# Altium footprint library SamacSys.PcbLib: 70 footprints (part 2 of 5)
Each footprint in its own frame and in the unit in brackets; x right, y up, seen from the top. Pads: shape width x height; smd on the part's side, far side on the other; paste and mask are expansions set on the pad; w line width, h text height; cw(c..) or ccw(c..) is an arc to the next point about the centre after c.
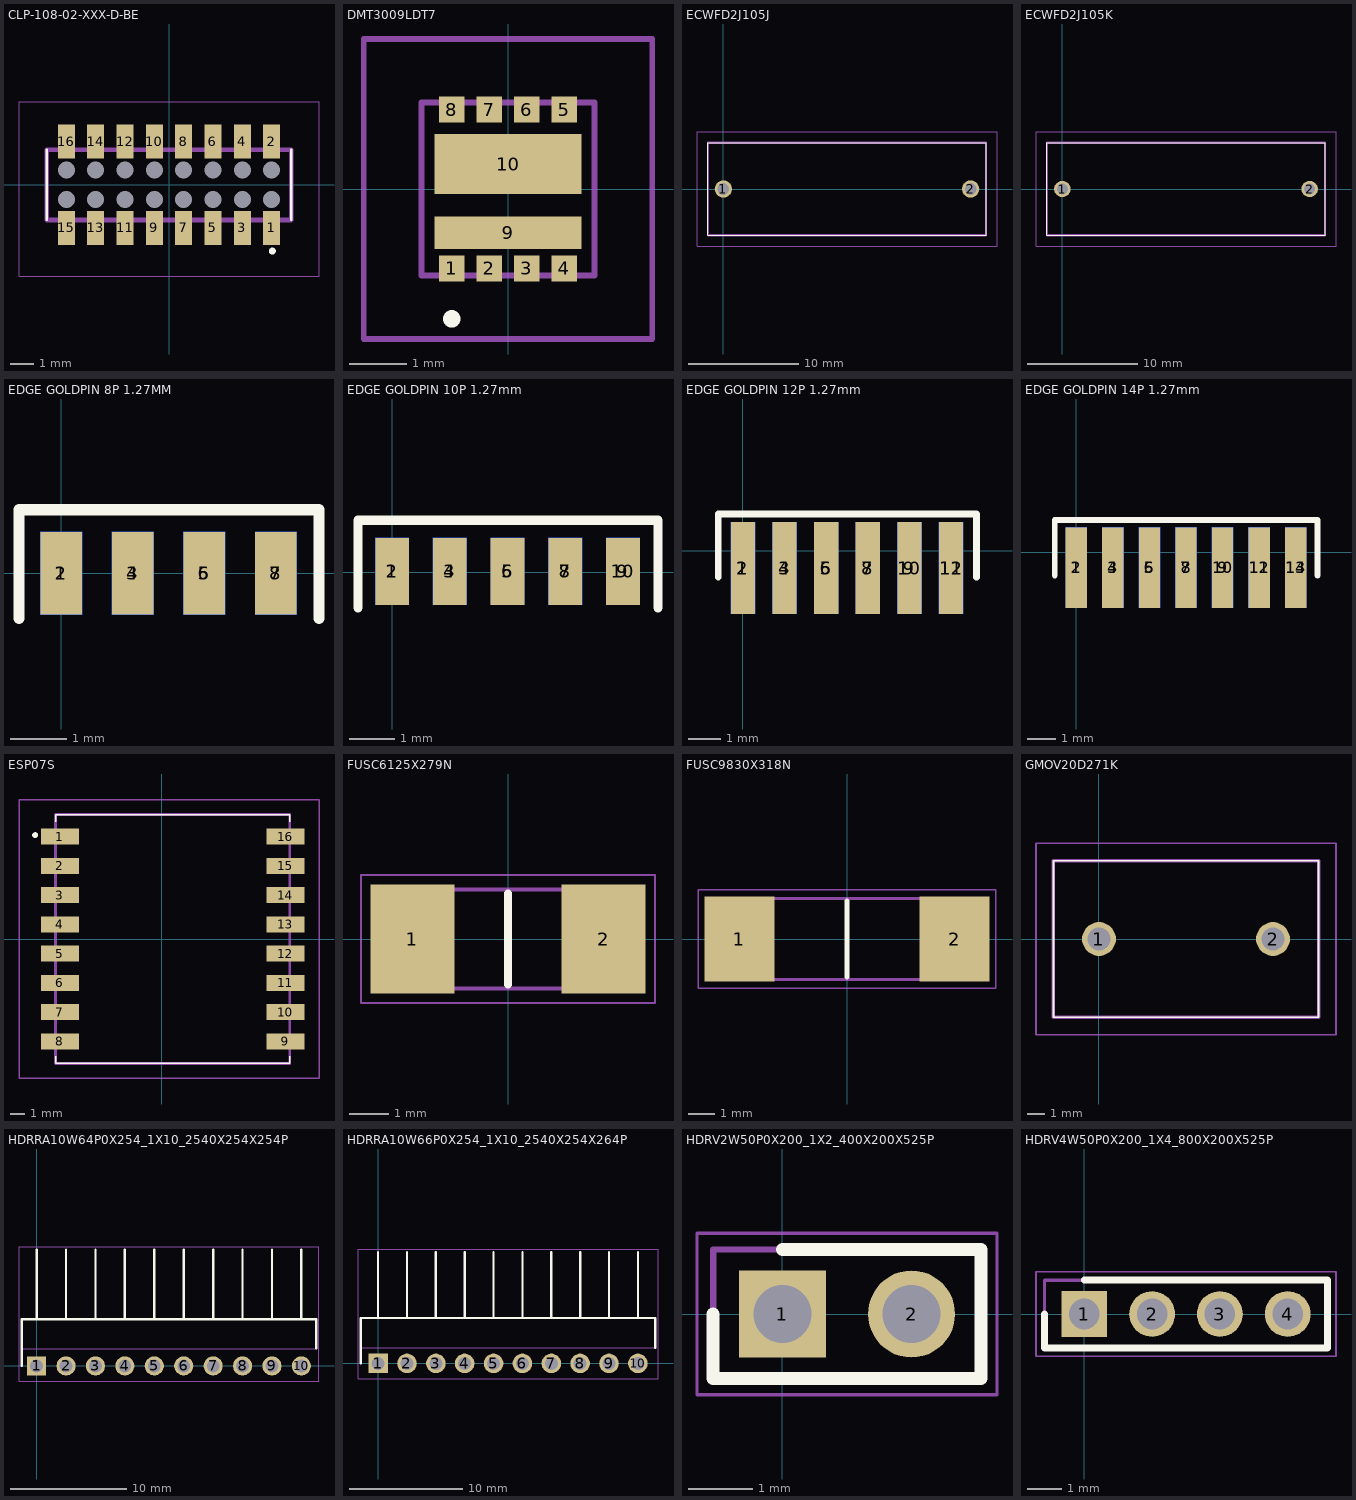
[diagram p1: the footprints below, top view; thin cyan lines are the x and y axes]

## CLP-108-02-XXX-D-BE [mm]
pads (32):
  rect 0.74x1.47 smd: 1(4.445,-1.87) 2(4.445,1.87) 3(3.175,-1.87) 4(3.175,1.87) 5(1.905,-1.87) 6(1.905,1.87) 7(0.635,-1.87) 8(0.635,1.87) 9(-0.635,-1.87) 10(-0.635,1.87) 11(-1.905,-1.87) 12(-1.905,1.87) 13(-3.175,-1.87) 14(-3.175,1.87) 15(-4.445,-1.87) 16(-4.445,1.87)
  round 0.37 hole 0.74 unplated: 17(4.445,-0.635) 18(4.445,0.635) 19(3.175,-0.635) 20(3.175,0.635) 21(1.905,-0.635) 22(1.905,0.635) 23(0.635,-0.635) 24(0.635,0.635) 25(-0.635,-0.635) 26(-0.635,0.635) 27(-1.905,-0.635) 28(-1.905,0.635) 29(-3.175,-0.635) 30(-3.175,0.635) 31(-4.445,-0.635) 32(-4.445,0.635)
Top Overlay:
  circle w0.2: c4.475,-2.87 r0.05
  lines w0.1: -5.295,-1.525 -5.295,1.525 ; 5.295,-1.525 5.295,1.525
Mechanical 13:
  lines w0.2: -5.295,-1.525 -5.295,1.525 5.295,1.525 5.295,-1.525 -5.295,-1.525
Mechanical 15:
  lines w0.05: -6.495,-3.97 -6.495,3.605 6.495,3.605 6.495,-3.97 -6.495,-3.97
3D body "CLP-108-02-F-D-BE.stp": height 2.13, standoff -0.15, extent -5.297,-2.159 5.295,2.159

## DMT3009LDT7 [mm]
pads (10):
  rect 0.45x0.45 smd: 1(-0.975,-1.375) 2(-0.325,-1.375) 3(0.325,-1.375) 4(0.975,-1.375) 5(0.975,1.375) 6(0.325,1.375) 7(-0.325,1.375) 8(-0.975,1.375)
  rect 2.55x0.566 smd: 9(0,-0.761)
  rect 2.55x1.044 smd: 10(0,0.433)
Top Overlay:
  lines w0.2: -0.975,-2.3 ccw(c-0.975,-2.25) -0.975,-2.2 ; -0.975,-2.3 cw(c-0.975,-2.25) -0.975,-2.2 ; -0.975,-2.3 ccw(c-0.975,-2.25) -0.975,-2.2
Mechanical 13:
  lines w0.1: -1.5,-1.5 -1.5,1.5 1.5,1.5 1.5,-1.5 -1.5,-1.5
Mechanical 15:
  lines w0.1: -2.5,-2.6 -2.5,2.6 2.5,2.6 2.5,-2.6 -2.5,-2.6
3D body "DMT3009LDT-7.stp": height 0.95, standoff 0, extent -1.5,-1.555 1.5,1.555

## ECWFD2J105J [mm]
pads (2):
  round 1.575 hole 1.05: 1(0,0) 2(22.5,0)
Top Overlay:
  lines w0.1: -1.4,-4.2 23.9,-4.2 23.9,4.2 -1.4,4.2 -1.4,-4.2
Mechanical 13:
  lines w0.2: -1.4,-4.2 23.9,-4.2 23.9,4.2 -1.4,4.2 -1.4,-4.2
Mechanical 15:
  lines w0.1: -2.4,-5.2 24.9,-5.2 24.9,5.2 -2.4,5.2 -2.4,-5.2
3D body "ECW-FD2J105J.stp": height 15.1, standoff -5, extent -1.4,-4.2 23.9,4.2

## ECWFD2J105K [mm]
pads (2):
  round 1.5 hole 1: 1(0,0) 2(22.5,0)
Top Overlay:
  lines w0.1: -1.4,-4.2 -1.4,4.2 23.9,4.2 23.9,-4.2 -1.4,-4.2
Mechanical 13:
  lines w0.2: -1.4,-4.2 -1.4,4.2 23.9,4.2 23.9,-4.2 -1.4,-4.2
Mechanical 15:
  lines w0.1: -2.4,-5.2 -2.4,5.2 24.9,5.2 24.9,-5.2 -2.4,-5.2
3D body "ECW-FD2J105K.stp": height 13.6, standoff -5, extent -1.4,-4.2 23.9,4.2

## EDGE GOLDPIN 8P 1.27MM [mm]
pads (8):
  rect 0.74x1.47 smd: 1(-0.001,-0.002) 3(1.269,-0.002) 5(2.539,-0.002) 7(3.809,-0.002)
  rect 0.74x1.47 smd far side: 2(-0.001,-0.002) 4(1.269,-0.002) 6(2.539,-0.002) 8(3.809,-0.002)
Top Overlay:
  lines w0.2: -0.751,-0.802 -0.751,1.123 4.575,1.123 4.575,-0.802

## EDGE GOLDPIN 10P 1.27mm [mm]
pads (10):
  rect 0.74x1.47 smd: 1(-0.001,0.023) 3(1.269,0.023) 5(2.539,0.023) 7(3.809,0.023) 9(5.079,0.023)
  rect 0.74x1.47 smd far side: 2(-0.001,0.023) 4(1.269,0.023) 6(2.539,0.023) 8(3.809,0.023) 10(5.079,0.023)
Top Overlay:
  lines w0.2: -0.751,-0.777 -0.751,1.148 5.85,1.148 5.85,-0.777

## EDGE GOLDPIN 12P 1.27mm [mm]
pads (12):
  rect 0.74x2.8 smd: 1(0,-0.525) 3(1.27,-0.525) 5(2.54,-0.525) 7(3.81,-0.525) 9(5.08,-0.525) 11(6.35,-0.525)
  rect 0.74x2.8 smd far side: 2(0,-0.525) 4(1.27,-0.525) 6(2.54,-0.525) 8(3.81,-0.525) 10(5.08,-0.525) 12(6.35,-0.525)
Top Overlay:
  lines w0.2: -0.75,-0.8 -0.75,1.125 7.125,1.125 7.125,-0.8

## EDGE GOLDPIN 14P 1.27mm [mm]
pads (14):
  rect 0.74x2.8 smd: 1(0,-0.525) 3(1.27,-0.525) 5(2.54,-0.525) 7(3.81,-0.525) 9(5.08,-0.525) 11(6.35,-0.525) 13(7.62,-0.525)
  rect 0.74x2.8 smd far side: 2(0,-0.525) 4(1.27,-0.525) 6(2.54,-0.525) 8(3.81,-0.525) 10(5.08,-0.525) 12(6.35,-0.525) 14(7.62,-0.525)
Top Overlay:
  lines w0.2: -0.75,-0.8 -0.75,1.125 8.375,1.125 8.375,-0.8

## ESP07S [mm]
pads (16):
  rect 2.6x1.1 smd: 1(-6.95,7) 2(-6.95,5) 3(-6.95,3) 4(-6.95,1) 5(-6.95,-1) 6(-6.95,-3) 7(-6.95,-5) 8(-6.95,-7) 9(8.45,-7) 10(8.45,-5) 11(8.45,-3) 12(8.45,-1) 13(8.45,1) 14(8.45,3) 15(8.45,5) 16(8.45,7)
Top Overlay:
  lines w0.1: -7.25,-8 -7.25,-8.5 8.75,-8.5 8.75,-8 ; -7.25,8 -7.25,8.5 8.75,8.5 8.75,8
  lines w0.2: -8.65,7 ccw(c-8.65,7.1) -8.65,7.2 ccw(c-8.65,7.1) -8.65,7
Mechanical 13:
  lines w0.2: -7.25,-8.5 -7.25,8.5 8.75,8.5 8.75,-8.5 -7.25,-8.5
Mechanical 15:
  lines w0.1: -9.75,-9.5 -9.75,9.5 10.75,9.5 10.75,-9.5 -9.75,-9.5
3D body "ESP-07S.stp": height 3.1, standoff 0, extent -7.25,-8.5 8.75,8.5

## FUSC6125X279N [mm]
pads (2):
  rect 2.15x2.8 smd: 1(-2.455,0) 2(2.455,0)
Top Overlay:
  lines w0.2: 0,-1.17 0,1.17
Mechanical 13:
  lines w0.1: -3.05,-1.27 -3.05,1.27 3.05,1.27 3.05,-1.27 -3.05,-1.27
Mechanical 15:
  lines w0.05: -3.78,-1.65 -3.78,1.65 3.78,1.65 3.78,-1.65 -3.78,-1.65
3D body "0679H1500-05.stp": height 2.79, standoff 0, extent -3.05,-1.27 3.05,1.27

## FUSC9830X318N [mm]
pads (2):
  rect 2.62x3.2 smd: 1(-4.05,0) 2(4.05,0)
Top Overlay:
  lines w0.2: 0,-1.425 0,1.425
Mechanical 13:
  lines w0.1: -4.9,-1.525 -4.9,1.525 4.9,1.525 4.9,-1.525 -4.9,-1.525
Mechanical 15:
  lines w0.05: -5.61,-1.85 -5.61,1.85 5.61,1.85 5.61,-1.85 -5.61,-1.85
3D body "0678H9100-02.stp": height 3.18, standoff 0, extent -4.9,-1.525 4.9,1.525

## GMOV20D271K [mm]
pads (2):
  round 1.95 hole 1.3: 1(0,0) 2(10,0)
Top Overlay:
  lines w0.1: -2.62,-4.5 -2.62,4.5 12.62,4.5 12.62,-4.5 -2.62,-4.5
Mechanical 13:
  lines w0.2: -2.62,-4.5 -2.62,4.5 12.62,4.5 12.62,-4.5 -2.62,-4.5
Mechanical 15:
  lines w0.1: -3.62,-5.5 -3.62,5.5 13.62,5.5 13.62,-5.5 -3.62,-5.5
3D body "GMOV-20D271K.stp": height 26.1, standoff -5, extent -2.62,-4.5 12.62,4.5

## HDRRA10W64P0X254_1X10_2540X254X254P [mm]
pads (10):
  rect 1.65x1.65 hole 1.1: 1(0,0)
  round 1.65 hole 1.1: 2(2.54,0) 3(5.08,0) 4(7.62,0) 5(10.16,0) 6(12.7,0) 7(15.24,0) 8(17.78,0) 9(20.32,0) 10(22.86,0)
Top Overlay:
  lines w0.2: -1.27,0 -1.27,4.04 24.13,4.04 24.13,1.5 ; 0,4.04 0,10.04 ; 2.54,4.04 2.54,10.04 ; 5.08,4.04 5.08,10.04 ; 7.62,4.04 7.62,10.04 ; 10.16,4.04 10.16,10.04 ; 12.7,4.04 12.7,10.04 ; 15.24,4.04 15.24,10.04 ; 17.78,4.04 17.78,10.04 ; 20.32,4.04 20.32,10.04 ; 22.86,4.04 22.86,10.04
Mechanical 13:
  lines w0.1: -1.27,1.5 24.13,1.5 24.13,4.04 -1.27,4.04 -1.27,1.5
Mechanical 15:
  lines w0.05: -1.52,-1.325 -1.52,10.29 24.38,10.29 24.38,-1.325 -1.52,-1.325
3D body "61301011021.stp": height 2.54, standoff -3, extent -1.27,-0.32 24.13,10.04

## HDRRA10W66P0X254_1X10_2540X254X264P [mm]
pads (10):
  rect 1.725x1.725 hole 1.15: 1(0,0)
  round 1.725 hole 1.15: 2(2.54,0) 3(5.08,0) 4(7.62,0) 5(10.16,0) 6(12.7,0) 7(15.24,0) 8(17.78,0) 9(20.32,0) 10(22.86,0)
Top Overlay:
  lines w0.2: -1.52,0 -1.52,4 24.38,4 24.38,1.36 ; 0,4 0,9.8 ; 2.54,4 2.54,9.8 ; 5.08,4 5.08,9.8 ; 7.62,4 7.62,9.8 ; 10.16,4 10.16,9.8 ; 12.7,4 12.7,9.8 ; 15.24,4 15.24,9.8 ; 17.78,4 17.78,9.8 ; 20.32,4 20.32,9.8 ; 22.86,4 22.86,9.8
Mechanical 13:
  lines w0.1: -1.52,1.36 24.38,1.36 24.38,4 -1.52,4 -1.52,1.36
Mechanical 15:
  lines w0.05: -1.77,-1.362 -1.77,10.05 24.63,10.05 24.63,-1.362 -1.77,-1.362
3D body "M20-9751046.stp": height 4.22, standoff -5.8, extent -1.27,-1.27 24.13,4.27

## HDRV2W50P0X200_1X2_400X200X525P [mm]
pads (2):
  rect 1.35x1.35 hole 0.9: 1(0,0)
  round 1.35 hole 0.9: 2(2,0)
Top Overlay:
  lines w0.2: -1.075,0 -1.075,-1 3.075,-1 3.075,1 0,1
Mechanical 13:
  lines w0.1: -1.075,-1 3.075,-1 3.075,1 -1.075,1 -1.075,-1
Mechanical 15:
  lines w0.05: -1.325,-1.25 3.325,-1.25 3.325,1.25 -1.325,1.25 -1.325,-1.25
3D body "M22-2010205.stp": height 5.25, standoff -3.65, extent -1,-1 3,1

## HDRV4W50P0X200_1X4_800X200X525P [mm]
pads (4):
  rect 1.35x1.35 hole 0.9: 1(0,0)
  round 1.35 hole 0.9: 2(2,0) 3(4,0) 4(6,0)
Top Overlay:
  lines w0.2: -1.175,0 -1.175,-1 7.175,-1 7.175,1 0,1
Mechanical 13:
  lines w0.1: -1.175,-1 7.175,-1 7.175,1 -1.175,1 -1.175,-1
Mechanical 15:
  lines w0.05: -1.425,-1.25 7.425,-1.25 7.425,1.25 -1.425,1.25 -1.425,-1.25
3D body "M22-2510405.stp": height 5.25, standoff -2.55, extent -1,-1 7,1